# Altium footprint library LDB600L.PcbLib: 1 footprints
Each footprint in its own frame and in the unit in brackets; x right, y up, seen from the top. Pads: shape width x height; smd on the part's side, far side on the other; paste and mask are expansions set on the pad; w line width, h text height; cw(c..) or ccw(c..) is an arc to the next point about the centre after c.
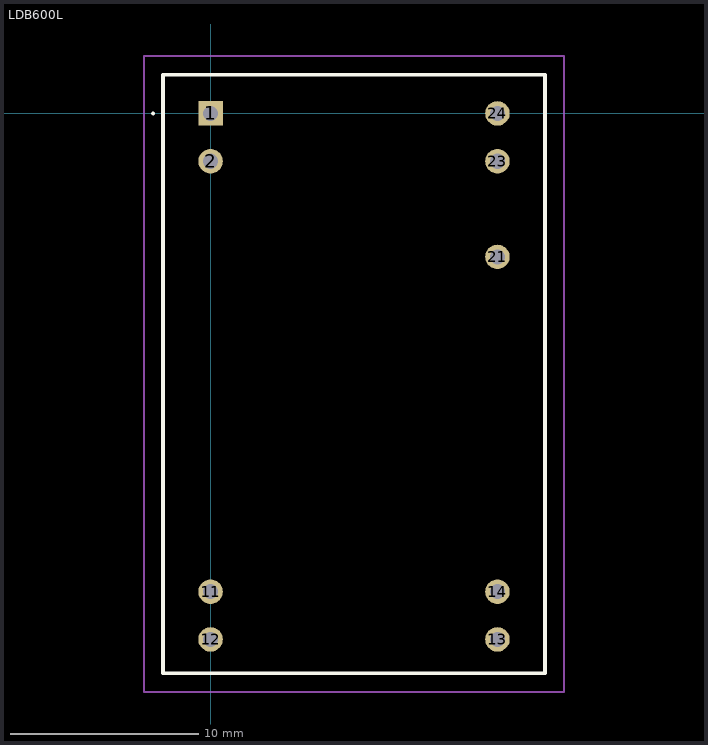
[diagram p0: the footprint, top view; thin cyan lines are the x and y axes]

## LDB600L [mm]
pads (9):
  rect 1.3x1.3 hole 0.8: 1(0,0)
  round 1.3 hole 0.8: 2(0,-2.54) 11(0,-25.4) 12(0,-27.94) 13(15.24,-27.94) 14(15.24,-25.4) 21(15.24,-7.62) 23(15.24,-2.54) 24(15.24,0)
Top Overlay:
  lines w0.1: -3.1,0 -3.1,0 ; -3.1,0 ccw(c-3.05,0) -3,0 ; -3.1,0 cw(c-3.05,0) -3,0 ; -3,0 -3,0
  lines w0.2: -2.53,-29.74 -2.53,2.06 17.77,2.06 17.77,-29.74 -2.53,-29.74
Mechanical 15:
  lines w0.1: -2.53,-29.74 17.77,-29.74 17.77,2.06 -2.53,2.06 -2.53,-29.74
Mechanical 20:
  lines w0.1: -3.53,-30.74 -3.53,3.06 18.77,3.06 18.77,-30.74 -3.53,-30.74